# Altium footprint library Standard-Card-Footprints.PcbLib: 17 footprints (part 1 of 2)
Each footprint in its own frame and in the unit in brackets; x right, y up, seen from the top. Pads: shape width x height; smd on the part's side, far side on the other; paste and mask are expansions set on the pad; w line width, h text height; cw(c..) or ccw(c..) is an arc to the next point about the centre after c.
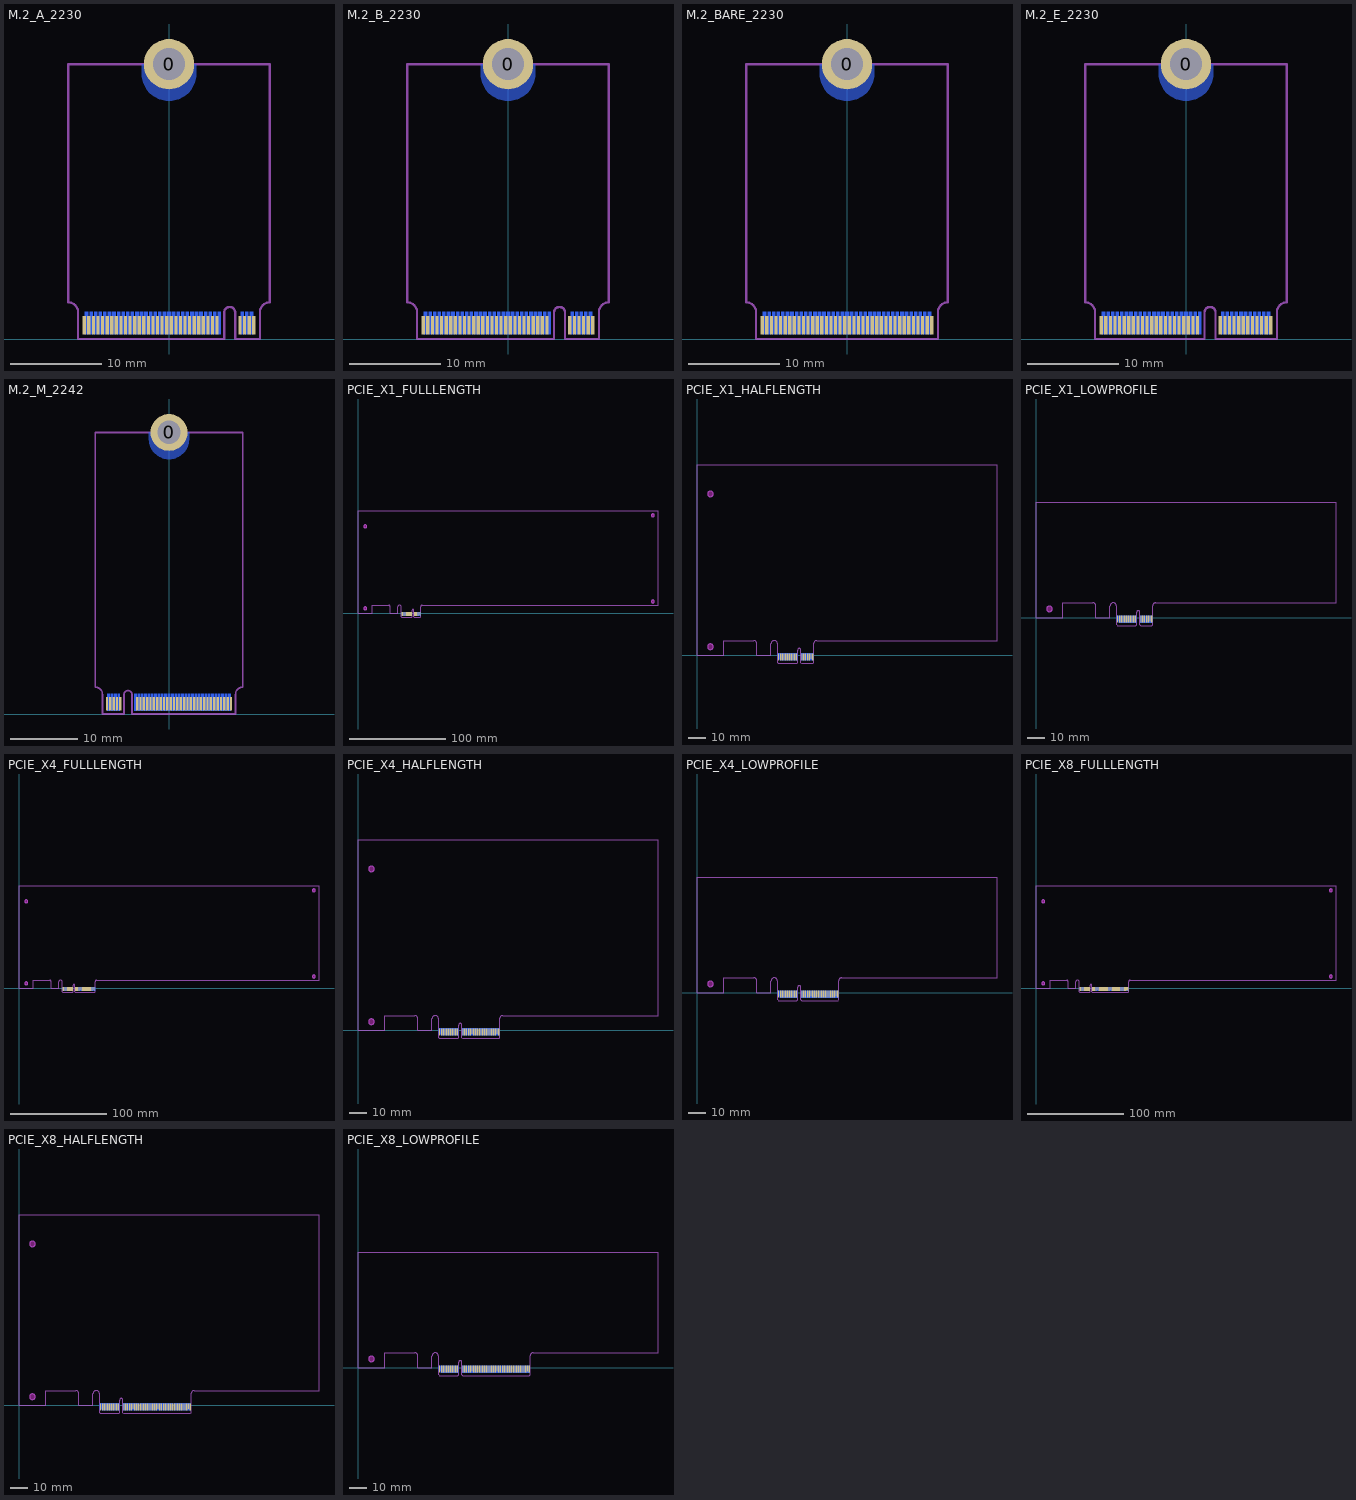
[diagram p0: the footprints below, top view; thin cyan lines are the x and y axes]

## M.2_A_2230 [mm]
pads (69):
  round 0.025 smd far side: 0(0,28)
  round 5.5 hole 3.5: 0(0,30)
  rect 0.35x2 smd: 1(9.25,1.5) 3(8.75,1.5) 5(8.25,1.5) 7(7.75,1.5) 17(5.25,1.5) 19(4.75,1.5) 21(4.25,1.5) 23(3.75,1.5) 25(3.25,1.5) 27(2.75,1.5) 29(2.25,1.5) 31(1.75,1.5) 33(1.25,1.5) 35(0.75,1.5) 37(0.25,1.5) 39(-0.25,1.5) 41(-0.75,1.5) 43(-1.25,1.5) 45(-1.75,1.5) 47(-2.25,1.5) 49(-2.75,1.5) 51(-3.25,1.5) 53(-3.75,1.5) 55(-4.25,1.5) 57(-4.75,1.5) 59(-5.25,1.5) 61(-5.75,1.5) 63(-6.25,1.5) 65(-6.75,1.5) 67(-7.25,1.5) 69(-7.75,1.5) 71(-8.25,1.5) 73(-8.75,1.5) 75(-9.25,1.5)
  rect 0.35x2.5 smd far side: 2(9,1.75) 4(8.5,1.75) 6(8,1.75) 16(5.5,1.75) 18(5,1.75) 20(4.5,1.75) 22(4,1.75) 24(3.5,1.75) 26(3,1.75) 28(2.5,1.75) 30(2,1.75) 32(1.5,1.75) 34(1,1.75) 36(0.5,1.75) 38(0,1.75) 40(-0.5,1.75) 42(-1,1.75) 44(-1.5,1.75) 46(-2,1.75) 48(-2.5,1.75) 50(-3,1.75) 52(-3.5,1.75) 54(-4,1.75) 56(-4.5,1.75) 58(-5,1.75) 60(-5.5,1.75) 62(-6,1.75) 64(-6.5,1.75) 66(-7,1.75) 68(-7.5,1.75) 70(-8,1.75) 72(-8.5,1.75) 74(-9,1.75)
Bottom Layer:
  region: -3,29 -3,28.882 -2.982,28.647 -2.945,28.414 -2.89,28.185 -2.817,27.961 -2.727,27.743 -2.62,27.533 -2.496,27.332 -2.358,27.141 -2.205,26.962 -2.038,26.795 -1.859,26.642 -1.668,26.504 -1.467,26.38 -1.257,26.273 -1.039,26.183 -0.815,26.11 -0.586,26.055 -0.353,26.018 -0.118,26 0.118,26 0.353,26.018 0.586,26.055 0.815,26.11 1.039,26.183 1.257,26.273 1.467,26.38 1.668,26.504 1.859,26.642 2.038,26.795 2.205,26.962 2.358,27.141 2.496,27.332 2.62,27.533 2.727,27.743 2.817,27.961 2.89,28.185 2.945,28.414 2.982,28.647 3,28.882 3,29 3,30 1.75,30 1.748,29.914 1.731,29.743 1.698,29.575 1.648,29.41 1.582,29.252 1.501,29.1 1.406,28.958 1.297,28.825 1.175,28.703 1.042,28.594 0.9,28.499 0.748,28.418 0.59,28.352 0.425,28.302 0.257,28.269 0.086,28.252 -0.086,28.252 -0.257,28.269 -0.425,28.302 -0.59,28.352 -0.748,28.418 -0.9,28.499 -1.042,28.594 -1.175,28.703 -1.297,28.825 -1.406,28.958 -1.501,29.1 -1.582,29.252 -1.648,29.41 -1.698,29.575 -1.731,29.743 -1.748,29.914 -1.75,30 -3,30
Top Solder:
  region: -11,4 11,4 11,0 -11,0
  region: -2.75,30 -2.75,29.784 -2.682,29.356 -2.549,28.944 -2.352,28.559 -2.098,28.208 -1.792,27.902 -1.441,27.648 -1.056,27.451 -0.644,27.318 -0.216,27.25 0.216,27.25 0.644,27.318 1.056,27.451 1.441,27.648 1.792,27.902 2.098,28.208 2.352,28.559 2.549,28.944 2.682,29.356 2.75,29.784 2.75,30 1.75,30 1.742,29.828 1.675,29.492 1.543,29.175 1.353,28.89 1.11,28.647 0.825,28.457 0.508,28.325 0.172,28.258 -0.172,28.258 -0.508,28.325 -0.825,28.457 -1.11,28.647 -1.353,28.89 -1.543,29.175 -1.675,29.492 -1.742,29.828 -1.75,30
Bottom Solder:
  region: -11,4 11,4 11,0 -11,0
  region: -3,29 -3,28.764 -2.926,28.297 -2.78,27.848 -2.566,27.428 -2.288,27.046 -1.954,26.712 -1.572,26.434 -1.152,26.22 -0.703,26.074 -0.236,26 0.236,26 0.703,26.074 1.152,26.22 1.572,26.434 1.954,26.712 2.288,27.046 2.566,27.428 2.78,27.848 2.926,28.297 3,28.764 3,29 3,30 1.75,30 1.742,29.828 1.675,29.492 1.543,29.175 1.353,28.89 1.11,28.647 0.825,28.457 0.508,28.325 0.172,28.258 -0.172,28.258 -0.508,28.325 -0.825,28.457 -1.11,28.647 -1.353,28.89 -1.543,29.175 -1.675,29.492 -1.742,29.828 -1.75,30 -3,30
Mechanical 1:
  lines w0.254: -11,4 cw(c-11,2.925) -9.925,2.925 -9.925,0 6.025,0 6.025,2.9 cw(c6.625,2.9) 7.225,2.9 7.225,0 9.925,0 9.925,2.925 cw(c11,2.925) 11,4 11,30 1.75,30 cw(c0,30) -1.75,30 -11,30 -11,4

## M.2_B_2230 [mm]
pads (69):
  round 0.025 smd far side: 0(0,28)
  round 5.5 hole 3.5: 0(0,30)
  rect 0.35x2 smd: 1(9.25,1.5) 3(8.75,1.5) 5(8.25,1.5) 7(7.75,1.5) 9(7.25,1.5) 11(6.75,1.5) 21(4.25,1.5) 23(3.75,1.5) 25(3.25,1.5) 27(2.75,1.5) 29(2.25,1.5) 31(1.75,1.5) 33(1.25,1.5) 35(0.75,1.5) 37(0.25,1.5) 39(-0.25,1.5) 41(-0.75,1.5) 43(-1.25,1.5) 45(-1.75,1.5) 47(-2.25,1.5) 49(-2.75,1.5) 51(-3.25,1.5) 53(-3.75,1.5) 55(-4.25,1.5) 57(-4.75,1.5) 59(-5.25,1.5) 61(-5.75,1.5) 63(-6.25,1.5) 65(-6.75,1.5) 67(-7.25,1.5) 69(-7.75,1.5) 71(-8.25,1.5) 73(-8.75,1.5) 75(-9.25,1.5)
  rect 0.35x2.5 smd far side: 2(9,1.75) 4(8.5,1.75) 6(8,1.75) 8(7.5,1.75) 10(7,1.75) 20(4.5,1.75) 22(4,1.75) 24(3.5,1.75) 26(3,1.75) 28(2.5,1.75) 30(2,1.75) 32(1.5,1.75) 34(1,1.75) 36(0.5,1.75) 38(0,1.75) 40(-0.5,1.75) 42(-1,1.75) 44(-1.5,1.75) 46(-2,1.75) 48(-2.5,1.75) 50(-3,1.75) 52(-3.5,1.75) 54(-4,1.75) 56(-4.5,1.75) 58(-5,1.75) 60(-5.5,1.75) 62(-6,1.75) 64(-6.5,1.75) 66(-7,1.75) 68(-7.5,1.75) 70(-8,1.75) 72(-8.5,1.75) 74(-9,1.75)
Bottom Layer:
  region: -3,29 -3,28.882 -2.982,28.647 -2.945,28.414 -2.89,28.185 -2.817,27.961 -2.727,27.743 -2.62,27.533 -2.496,27.332 -2.358,27.141 -2.205,26.962 -2.038,26.795 -1.859,26.642 -1.668,26.504 -1.467,26.38 -1.257,26.273 -1.039,26.183 -0.815,26.11 -0.586,26.055 -0.353,26.018 -0.118,26 0.118,26 0.353,26.018 0.586,26.055 0.815,26.11 1.039,26.183 1.257,26.273 1.467,26.38 1.668,26.504 1.859,26.642 2.038,26.795 2.205,26.962 2.358,27.141 2.496,27.332 2.62,27.533 2.727,27.743 2.817,27.961 2.89,28.185 2.945,28.414 2.982,28.647 3,28.882 3,29 3,30 1.75,30 1.748,29.914 1.731,29.743 1.698,29.575 1.648,29.41 1.582,29.252 1.501,29.1 1.406,28.958 1.297,28.825 1.175,28.703 1.042,28.594 0.9,28.499 0.748,28.418 0.59,28.352 0.425,28.302 0.257,28.269 0.086,28.252 -0.086,28.252 -0.257,28.269 -0.425,28.302 -0.59,28.352 -0.748,28.418 -0.9,28.499 -1.042,28.594 -1.175,28.703 -1.297,28.825 -1.406,28.958 -1.501,29.1 -1.582,29.252 -1.648,29.41 -1.698,29.575 -1.731,29.743 -1.748,29.914 -1.75,30 -3,30
Top Solder:
  region: -11,4 11,4 11,0 -11,0
  region: -2.75,30 -2.75,29.784 -2.682,29.356 -2.549,28.944 -2.352,28.559 -2.098,28.208 -1.792,27.902 -1.441,27.648 -1.056,27.451 -0.644,27.318 -0.216,27.25 0.216,27.25 0.644,27.318 1.056,27.451 1.441,27.648 1.792,27.902 2.098,28.208 2.352,28.559 2.549,28.944 2.682,29.356 2.75,29.784 2.75,30 1.75,30 1.742,29.828 1.675,29.492 1.543,29.175 1.353,28.89 1.11,28.647 0.825,28.457 0.508,28.325 0.172,28.258 -0.172,28.258 -0.508,28.325 -0.825,28.457 -1.11,28.647 -1.353,28.89 -1.543,29.175 -1.675,29.492 -1.742,29.828 -1.75,30
Bottom Solder:
  region: -11,4 11,4 11,0 -11,0
  region: -3,29 -3,28.764 -2.926,28.297 -2.78,27.848 -2.566,27.428 -2.288,27.046 -1.954,26.712 -1.572,26.434 -1.152,26.22 -0.703,26.074 -0.236,26 0.236,26 0.703,26.074 1.152,26.22 1.572,26.434 1.954,26.712 2.288,27.046 2.566,27.428 2.78,27.848 2.926,28.297 3,28.764 3,29 3,30 1.75,30 1.742,29.828 1.675,29.492 1.543,29.175 1.353,28.89 1.11,28.647 0.825,28.457 0.508,28.325 0.172,28.258 -0.172,28.258 -0.508,28.325 -0.825,28.457 -1.11,28.647 -1.353,28.89 -1.543,29.175 -1.675,29.492 -1.742,29.828 -1.75,30 -3,30
Mechanical 1:
  lines w0.254: -11,4 cw(c-11,2.925) -9.925,2.925 -9.925,0 5.025,0 5.025,2.9 cw(c5.625,2.9) 6.225,2.9 6.225,0 9.925,0 9.925,2.925 cw(c11,2.925) 11,4 11,30 1.75,30 cw(c0,30) -1.75,30 -11,30 -11,4

## M.2_BARE_2230 [mm]
pads (77):
  round 0.025 smd far side: 0(0,28)
  round 5.5 hole 3.5: 0(0,30)
  rect 0.35x2 smd: 1(9.25,1.5) 3(8.75,1.5) 5(8.25,1.5) 7(7.75,1.5) 9(7.25,1.5) 11(6.75,1.5) 13(6.25,1.5) 15(5.75,1.5) 17(5.25,1.5) 19(4.75,1.5) 21(4.25,1.5) 23(3.75,1.5) 25(3.25,1.5) 27(2.75,1.5) 29(2.25,1.5) 31(1.75,1.5) 33(1.25,1.5) 35(0.75,1.5) 37(0.25,1.5) 39(-0.25,1.5) 41(-0.75,1.5) 43(-1.25,1.5) 45(-1.75,1.5) 47(-2.25,1.5) 49(-2.75,1.5) 51(-3.25,1.5) 53(-3.75,1.5) 55(-4.25,1.5) 57(-4.75,1.5) 59(-5.25,1.5) 61(-5.75,1.5) 63(-6.25,1.5) 65(-6.75,1.5) 67(-7.25,1.5) 69(-7.75,1.5) 71(-8.25,1.5) 73(-8.75,1.5) 75(-9.25,1.5)
  rect 0.35x2.5 smd far side: 2(9,1.75) 4(8.5,1.75) 6(8,1.75) 8(7.5,1.75) 10(7,1.75) 12(6.5,1.75) 14(6,1.75) 16(5.5,1.75) 18(5,1.75) 20(4.5,1.75) 22(4,1.75) 24(3.5,1.75) 26(3,1.75) 28(2.5,1.75) 30(2,1.75) 32(1.5,1.75) 34(1,1.75) 36(0.5,1.75) 38(0,1.75) 40(-0.5,1.75) 42(-1,1.75) 44(-1.5,1.75) 46(-2,1.75) 48(-2.5,1.75) 50(-3,1.75) 52(-3.5,1.75) 54(-4,1.75) 56(-4.5,1.75) 58(-5,1.75) 60(-5.5,1.75) 62(-6,1.75) 64(-6.5,1.75) 66(-7,1.75) 68(-7.5,1.75) 70(-8,1.75) 72(-8.5,1.75) 74(-9,1.75)
Bottom Layer:
  region: -3,29 -3,28.882 -2.982,28.647 -2.945,28.414 -2.89,28.185 -2.817,27.961 -2.727,27.743 -2.62,27.533 -2.496,27.332 -2.358,27.141 -2.205,26.962 -2.038,26.795 -1.859,26.642 -1.668,26.504 -1.467,26.38 -1.257,26.273 -1.039,26.183 -0.815,26.11 -0.586,26.055 -0.353,26.018 -0.118,26 0.118,26 0.353,26.018 0.586,26.055 0.815,26.11 1.039,26.183 1.257,26.273 1.467,26.38 1.668,26.504 1.859,26.642 2.038,26.795 2.205,26.962 2.358,27.141 2.496,27.332 2.62,27.533 2.727,27.743 2.817,27.961 2.89,28.185 2.945,28.414 2.982,28.647 3,28.882 3,29 3,30 1.75,30 1.748,29.914 1.731,29.743 1.698,29.575 1.648,29.41 1.582,29.252 1.501,29.1 1.406,28.958 1.297,28.825 1.175,28.703 1.042,28.594 0.9,28.499 0.748,28.418 0.59,28.352 0.425,28.302 0.257,28.269 0.086,28.252 -0.086,28.252 -0.257,28.269 -0.425,28.302 -0.59,28.352 -0.748,28.418 -0.9,28.499 -1.042,28.594 -1.175,28.703 -1.297,28.825 -1.406,28.958 -1.501,29.1 -1.582,29.252 -1.648,29.41 -1.698,29.575 -1.731,29.743 -1.748,29.914 -1.75,30 -3,30
Top Solder:
  region: -11,4 11,4 11,0 -11,0
  region: -2.75,30 -2.75,29.784 -2.682,29.356 -2.549,28.944 -2.352,28.559 -2.098,28.208 -1.792,27.902 -1.441,27.648 -1.056,27.451 -0.644,27.318 -0.216,27.25 0.216,27.25 0.644,27.318 1.056,27.451 1.441,27.648 1.792,27.902 2.098,28.208 2.352,28.559 2.549,28.944 2.682,29.356 2.75,29.784 2.75,30 1.75,30 1.742,29.828 1.675,29.492 1.543,29.175 1.353,28.89 1.11,28.647 0.825,28.457 0.508,28.325 0.172,28.258 -0.172,28.258 -0.508,28.325 -0.825,28.457 -1.11,28.647 -1.353,28.89 -1.543,29.175 -1.675,29.492 -1.742,29.828 -1.75,30
Bottom Solder:
  region: -11,4 11,4 11,0 -11,0
  region: -3,29 -3,28.764 -2.926,28.297 -2.78,27.848 -2.566,27.428 -2.288,27.046 -1.954,26.712 -1.572,26.434 -1.152,26.22 -0.703,26.074 -0.236,26 0.236,26 0.703,26.074 1.152,26.22 1.572,26.434 1.954,26.712 2.288,27.046 2.566,27.428 2.78,27.848 2.926,28.297 3,28.764 3,29 3,30 1.75,30 1.742,29.828 1.675,29.492 1.543,29.175 1.353,28.89 1.11,28.647 0.825,28.457 0.508,28.325 0.172,28.258 -0.172,28.258 -0.508,28.325 -0.825,28.457 -1.11,28.647 -1.353,28.89 -1.543,29.175 -1.675,29.492 -1.742,29.828 -1.75,30 -3,30
Mechanical 1:
  lines w0.254: 7.2,0 -9.925,0 -9.925,2.925 ccw(c-11,2.925) -11,4 -11,30 -1.75,30 ccw(c0,30) 1.75,30 11,30 11,4 ccw(c11,2.925) 9.925,2.925 9.925,0 7.225,0

## M.2_E_2230 [mm]
pads (69):
  round 0.025 smd far side: 0(0,28)
  round 5.5 hole 3.5: 0(0,30)
  rect 0.35x2 smd: 1(9.25,1.5) 3(8.75,1.5) 5(8.25,1.5) 7(7.75,1.5) 9(7.25,1.5) 11(6.75,1.5) 13(6.25,1.5) 15(5.75,1.5) 17(5.25,1.5) 19(4.75,1.5) 21(4.25,1.5) 23(3.75,1.5) 33(1.25,1.5) 35(0.75,1.5) 37(0.25,1.5) 39(-0.25,1.5) 41(-0.75,1.5) 43(-1.25,1.5) 45(-1.75,1.5) 47(-2.25,1.5) 49(-2.75,1.5) 51(-3.25,1.5) 53(-3.75,1.5) 55(-4.25,1.5) 57(-4.75,1.5) 59(-5.25,1.5) 61(-5.75,1.5) 63(-6.25,1.5) 65(-6.75,1.5) 67(-7.25,1.5) 69(-7.75,1.5) 71(-8.25,1.5) 73(-8.75,1.5) 75(-9.25,1.5)
  rect 0.35x2.5 smd far side: 2(9,1.75) 4(8.5,1.75) 6(8,1.75) 8(7.5,1.75) 10(7,1.75) 12(6.5,1.75) 14(6,1.75) 16(5.5,1.75) 18(5,1.75) 20(4.5,1.75) 22(4,1.75) 32(1.5,1.75) 34(1,1.75) 36(0.5,1.75) 38(0,1.75) 40(-0.5,1.75) 42(-1,1.75) 44(-1.5,1.75) 46(-2,1.75) 48(-2.5,1.75) 50(-3,1.75) 52(-3.5,1.75) 54(-4,1.75) 56(-4.5,1.75) 58(-5,1.75) 60(-5.5,1.75) 62(-6,1.75) 64(-6.5,1.75) 66(-7,1.75) 68(-7.5,1.75) 70(-8,1.75) 72(-8.5,1.75) 74(-9,1.75)
Bottom Layer:
  region: -3,29 -3,28.882 -2.982,28.647 -2.945,28.414 -2.89,28.185 -2.817,27.961 -2.727,27.743 -2.62,27.533 -2.496,27.332 -2.358,27.141 -2.205,26.962 -2.038,26.795 -1.859,26.642 -1.668,26.504 -1.467,26.38 -1.257,26.273 -1.039,26.183 -0.815,26.11 -0.586,26.055 -0.353,26.018 -0.118,26 0.118,26 0.353,26.018 0.586,26.055 0.815,26.11 1.039,26.183 1.257,26.273 1.467,26.38 1.668,26.504 1.859,26.642 2.038,26.795 2.205,26.962 2.358,27.141 2.496,27.332 2.62,27.533 2.727,27.743 2.817,27.961 2.89,28.185 2.945,28.414 2.982,28.647 3,28.882 3,29 3,30 1.75,30 1.748,29.914 1.731,29.743 1.698,29.575 1.648,29.41 1.582,29.252 1.501,29.1 1.406,28.958 1.297,28.825 1.175,28.703 1.042,28.594 0.9,28.499 0.748,28.418 0.59,28.352 0.425,28.302 0.257,28.269 0.086,28.252 -0.086,28.252 -0.257,28.269 -0.425,28.302 -0.59,28.352 -0.748,28.418 -0.9,28.499 -1.042,28.594 -1.175,28.703 -1.297,28.825 -1.406,28.958 -1.501,29.1 -1.582,29.252 -1.648,29.41 -1.698,29.575 -1.731,29.743 -1.748,29.914 -1.75,30 -3,30
Top Solder:
  region: -11,4 11,4 11,0 -11,0
  region: -2.75,30 -2.75,29.784 -2.682,29.356 -2.549,28.944 -2.352,28.559 -2.098,28.208 -1.792,27.902 -1.441,27.648 -1.056,27.451 -0.644,27.318 -0.216,27.25 0.216,27.25 0.644,27.318 1.056,27.451 1.441,27.648 1.792,27.902 2.098,28.208 2.352,28.559 2.549,28.944 2.682,29.356 2.75,29.784 2.75,30 1.75,30 1.742,29.828 1.675,29.492 1.543,29.175 1.353,28.89 1.11,28.647 0.825,28.457 0.508,28.325 0.172,28.258 -0.172,28.258 -0.508,28.325 -0.825,28.457 -1.11,28.647 -1.353,28.89 -1.543,29.175 -1.675,29.492 -1.742,29.828 -1.75,30
Bottom Solder:
  region: -11,4 11,4 11,0 -11,0
  region: -3,29 -3,28.764 -2.926,28.297 -2.78,27.848 -2.566,27.428 -2.288,27.046 -1.954,26.712 -1.572,26.434 -1.152,26.22 -0.703,26.074 -0.236,26 0.236,26 0.703,26.074 1.152,26.22 1.572,26.434 1.954,26.712 2.288,27.046 2.566,27.428 2.78,27.848 2.926,28.297 3,28.764 3,29 3,30 1.75,30 1.742,29.828 1.675,29.492 1.543,29.175 1.353,28.89 1.11,28.647 0.825,28.457 0.508,28.325 0.172,28.258 -0.172,28.258 -0.508,28.325 -0.825,28.457 -1.11,28.647 -1.353,28.89 -1.543,29.175 -1.675,29.492 -1.742,29.828 -1.75,30 -3,30
Mechanical 1:
  lines w0.254: -11,4 cw(c-11,2.925) -9.925,2.925 -9.925,0 2.025,0 2.025,2.9 cw(c2.625,2.9) 3.225,2.9 3.225,0 9.925,0 9.925,2.925 cw(c11,2.925) 11,4 11,30 1.75,30 cw(c0,30) -1.75,30 -11,30 -11,4

## M.2_M_2242 [mm]
pads (69):
  round 0.025 smd far side: 0(0,40)
  round 5.5 hole 3.5: 0(0,42)
  rect 0.35x2 smd: 1(9.25,1.5) 3(8.75,1.5) 5(8.25,1.5) 7(7.75,1.5) 9(7.25,1.5) 11(6.75,1.5) 13(6.25,1.5) 15(5.75,1.5) 17(5.25,1.5) 19(4.75,1.5) 21(4.25,1.5) 23(3.75,1.5) 25(3.25,1.5) 27(2.75,1.5) 29(2.25,1.5) 31(1.75,1.5) 33(1.25,1.5) 35(0.75,1.5) 37(0.25,1.5) 39(-0.25,1.5) 41(-0.75,1.5) 43(-1.25,1.5) 45(-1.75,1.5) 47(-2.25,1.5) 49(-2.75,1.5) 51(-3.25,1.5) 53(-3.75,1.5) 55(-4.25,1.5) 57(-4.75,1.5) 67(-7.25,1.5) 69(-7.75,1.5) 71(-8.25,1.5) 73(-8.75,1.5) 75(-9.25,1.5)
  rect 0.35x2.5 smd far side: 2(9,1.75) 4(8.5,1.75) 6(8,1.75) 8(7.5,1.75) 10(7,1.75) 12(6.5,1.75) 14(6,1.75) 16(5.5,1.75) 18(5,1.75) 20(4.5,1.75) 22(4,1.75) 24(3.5,1.75) 26(3,1.75) 28(2.5,1.75) 30(2,1.75) 32(1.5,1.75) 34(1,1.75) 36(0.5,1.75) 38(0,1.75) 40(-0.5,1.75) 42(-1,1.75) 44(-1.5,1.75) 46(-2,1.75) 48(-2.5,1.75) 50(-3,1.75) 52(-3.5,1.75) 54(-4,1.75) 56(-4.5,1.75) 58(-5,1.75) 68(-7.5,1.75) 70(-8,1.75) 72(-8.5,1.75) 74(-9,1.75)
Bottom Layer:
  region: -3,41 -3,40.882 -2.982,40.647 -2.945,40.414 -2.89,40.185 -2.817,39.961 -2.727,39.743 -2.62,39.533 -2.496,39.332 -2.358,39.141 -2.205,38.962 -2.038,38.795 -1.859,38.642 -1.668,38.504 -1.467,38.38 -1.257,38.273 -1.039,38.183 -0.815,38.11 -0.586,38.055 -0.353,38.018 -0.118,38 0.118,38 0.353,38.018 0.586,38.055 0.815,38.11 1.039,38.183 1.257,38.273 1.467,38.38 1.668,38.504 1.859,38.642 2.038,38.795 2.205,38.962 2.358,39.141 2.496,39.332 2.62,39.533 2.727,39.743 2.817,39.961 2.89,40.185 2.945,40.414 2.982,40.647 3,40.882 3,41 3,42 1.75,42 1.748,41.914 1.731,41.743 1.698,41.575 1.648,41.41 1.582,41.252 1.501,41.1 1.406,40.958 1.297,40.825 1.175,40.703 1.042,40.594 0.9,40.499 0.748,40.418 0.59,40.352 0.425,40.302 0.257,40.269 0.086,40.252 -0.086,40.252 -0.257,40.269 -0.425,40.302 -0.59,40.352 -0.748,40.418 -0.9,40.499 -1.042,40.594 -1.175,40.703 -1.297,40.825 -1.406,40.958 -1.501,41.1 -1.582,41.252 -1.648,41.41 -1.698,41.575 -1.731,41.743 -1.748,41.914 -1.75,42 -3,42
Top Solder:
  region: -11,4 11,4 11,0 -11,0
  region: -2.75,42 -2.75,41.784 -2.682,41.356 -2.549,40.944 -2.352,40.559 -2.098,40.208 -1.792,39.902 -1.441,39.648 -1.056,39.451 -0.644,39.318 -0.216,39.25 0.216,39.25 0.644,39.318 1.056,39.451 1.441,39.648 1.792,39.902 2.098,40.208 2.352,40.559 2.549,40.944 2.682,41.356 2.75,41.784 2.75,42 1.75,42 1.742,41.828 1.675,41.492 1.543,41.175 1.353,40.89 1.11,40.647 0.825,40.457 0.508,40.325 0.172,40.258 -0.172,40.258 -0.508,40.325 -0.825,40.457 -1.11,40.647 -1.353,40.89 -1.543,41.175 -1.675,41.492 -1.742,41.828 -1.75,42
Bottom Solder:
  region: -11,4 11,4 11,0 -11,0
  region: -3,41 -3,40.764 -2.926,40.297 -2.78,39.848 -2.566,39.428 -2.288,39.046 -1.954,38.712 -1.572,38.434 -1.152,38.22 -0.703,38.074 -0.236,38 0.236,38 0.703,38.074 1.152,38.22 1.572,38.434 1.954,38.712 2.288,39.046 2.566,39.428 2.78,39.848 2.926,40.297 3,40.764 3,41 3,42 1.75,42 1.742,41.828 1.675,41.492 1.543,41.175 1.353,40.89 1.11,40.647 0.825,40.457 0.508,40.325 0.172,40.258 -0.172,40.258 -0.508,40.325 -0.825,40.457 -1.11,40.647 -1.353,40.89 -1.543,41.175 -1.675,41.492 -1.742,41.828 -1.75,42 -3,42
Mechanical 1:
  lines w0.254: -11,4 cw(c-11,2.925) -9.925,2.925 -9.925,0 -6.725,0 -6.725,2.9 cw(c-6.125,2.9) -5.525,2.9 -5.525,0 9.925,0 9.925,2.925 cw(c11,2.925) 11,4 11,42 1.75,42 cw(c0,42) -1.75,42 -11,42 -11,4

## PCIE_X1_FULLLENGTH [mm]
pads (36):
  rect 0.7x3.2 smd far side: A1(45.6,-0.5)
  rect 0.7x3.9 smd far side: A2(46.6,-0.855) A3(47.6,-0.855) A4(48.6,-0.855) A5(49.6,-0.855) A6(50.6,-0.855) A7(51.6,-0.855) A8(52.6,-0.855) A9(53.6,-0.855) A10(54.6,-0.855) A11(55.6,-0.855) A12(58.7,-0.855) A13(59.7,-0.855) A14(60.7,-0.855) A15(61.7,-0.855) A16(62.7,-0.855) A17(63.7,-0.855) A18(64.7,-0.855)
  rect 0.7x3.9 smd: B1(45.6,-0.855) B2(46.6,-0.855) B3(47.6,-0.855) B4(48.6,-0.855) B5(49.6,-0.855) B6(50.6,-0.855) B7(51.6,-0.855) B8(52.6,-0.855) B9(53.6,-0.855) B10(54.6,-0.855) B11(55.6,-0.855) B12(58.7,-0.855) B13(59.7,-0.855) B14(60.7,-0.855) B15(61.7,-0.855) B16(62.7,-0.855) B18(64.7,-0.855)
  rect 0.7x3.2 smd: B17(63.7,-0.5)
Top Solder:
  region: 58.1,1.2 58.1,-4 58.6,-4.5 64.8,-4.5 65.3,-4 65.3,1.2
  region: 45,1.2 45,-4 45.5,-4.5 55.7,-4.5 56.2,-4 56.2,1.2
Bottom Solder:
  region: 58.1,1.2 58.1,-4 58.6,-4.5 64.8,-4.5 65.3,-4 65.3,1.2
  region: 45,1.2 45,-4 45.5,-4.5 55.7,-4.5 56.2,-4 56.2,1.2
Keep-Out Layer:
  board cut-out: 7.5,88.66 7.343,88.66 7.036,88.721 6.747,88.841 6.486,89.015 6.265,89.236 6.091,89.497 5.971,89.786 5.91,90.093 5.91,90.25 5.91,90.407 5.971,90.714 6.091,91.003 6.265,91.264 6.486,91.485 6.747,91.659 7.036,91.779 7.343,91.84 7.5,91.84 7.657,91.84 7.964,91.779 8.253,91.659 8.514,91.485 8.735,91.264 8.909,91.003 9.029,90.714 9.09,90.407 9.09,90.25 9.09,90.093 9.029,89.786 8.909,89.497 8.735,89.236 8.514,89.015 8.253,88.841 7.964,88.721 7.657,88.66
  board cut-out: 5.91,4.85 5.91,4.693 5.971,4.386 6.091,4.097 6.265,3.836 6.486,3.615 6.747,3.441 7.036,3.321 7.343,3.26 7.5,3.26 7.657,3.26 7.964,3.321 8.253,3.441 8.514,3.615 8.735,3.836 8.909,4.097 9.029,4.386 9.09,4.693 9.09,4.85 9.09,5.007 9.029,5.314 8.909,5.603 8.735,5.864 8.514,6.085 8.253,6.259 7.964,6.379 7.657,6.44 7.5,6.44 7.343,6.44 7.036,6.379 6.747,6.259 6.486,6.085 6.265,5.864 6.091,5.603 5.971,5.314 5.91,5.007
  board cut-out: 305.16,101.63 305.16,101.473 305.221,101.166 305.341,100.877 305.515,100.616 305.736,100.395 305.997,100.221 306.286,100.101 306.593,100.04 306.75,100.04 306.907,100.04 307.214,100.101 307.503,100.221 307.764,100.395 307.985,100.616 308.159,100.877 308.279,101.166 308.34,101.473 308.34,101.63 308.34,101.787 308.279,102.094 308.159,102.383 307.985,102.644 307.764,102.865 307.503,103.039 307.214,103.159 306.907,103.22 306.75,103.22 306.593,103.22 306.286,103.159 305.997,103.039 305.736,102.865 305.515,102.644 305.341,102.383 305.221,102.094 305.16,101.787
  board cut-out: 305.16,12.1 305.16,11.943 305.221,11.636 305.341,11.347 305.515,11.086 305.736,10.865 305.997,10.691 306.286,10.571 306.593,10.51 306.75,10.51 306.907,10.51 307.214,10.571 307.503,10.691 307.764,10.865 307.985,11.086 308.159,11.347 308.279,11.636 308.34,11.943 308.34,12.1 308.34,12.257 308.279,12.564 308.159,12.853 307.985,13.114 307.764,13.335 307.503,13.509 307.214,13.629 306.907,13.69 306.75,13.69 306.593,13.69 306.286,13.629 305.997,13.509 305.736,13.335 305.515,13.114 305.341,12.853 305.221,12.564 305.16,12.257
Mechanical 1:
  circle w0.254: c306.75,101.63 r1.59
  circle w0.254: c7.5,90.25 r1.59
  circle w0.254: c306.75,12.1 r1.59
  circle w0.254: c7.5,4.85 r1.59
  lines w0.254: 0,0 0,106.65 312,106.65 312,8.25 66.8,8.25 ccw(c66.8,6.75) 65.3,6.75 65.3,-4 64.8,-4.5 58.6,-4.5 58.1,-4 58.1,2.95 ccw(c57.15,2.95) 56.2,2.95 56.2,-4 55.7,-4.5 45.5,-4.5 45,-4 45,6.425 ccw(c43.175,6.425) 41.35,6.425 41.35,0 33.35,0 33.35,6.75 ccw(c31.85,6.75) 31.85,8.25 15,8.25 15,0 0,0

## PCIE_X1_HALFLENGTH [mm]
pads (36):
  rect 0.7x3.2 smd far side: A1(45.6,-0.5)
  rect 0.7x3.9 smd far side: A2(46.6,-0.855) A3(47.6,-0.855) A4(48.6,-0.855) A5(49.6,-0.855) A6(50.6,-0.855) A7(51.6,-0.855) A8(52.6,-0.855) A9(53.6,-0.855) A10(54.6,-0.855) A11(55.6,-0.855) A12(58.7,-0.855) A13(59.7,-0.855) A14(60.7,-0.855) A15(61.7,-0.855) A16(62.7,-0.855) A17(63.7,-0.855) A18(64.7,-0.855)
  rect 0.7x3.9 smd: B1(45.6,-0.855) B2(46.6,-0.855) B3(47.6,-0.855) B4(48.6,-0.855) B5(49.6,-0.855) B6(50.6,-0.855) B7(51.6,-0.855) B8(52.6,-0.855) B9(53.6,-0.855) B10(54.6,-0.855) B11(55.6,-0.855) B12(58.7,-0.855) B13(59.7,-0.855) B14(60.7,-0.855) B15(61.7,-0.855) B16(62.7,-0.855) B18(64.7,-0.855)
  rect 0.7x3.2 smd: B17(63.7,-0.5)
Top Solder:
  region: 58.1,1.2 58.1,-4 58.6,-4.5 64.8,-4.5 65.3,-4 65.3,1.2
  region: 45,1.2 45,-4 45.5,-4.5 55.7,-4.5 56.2,-4 56.2,1.2
Bottom Solder:
  region: 58.1,1.2 58.1,-4 58.6,-4.5 64.8,-4.5 65.3,-4 65.3,1.2
  region: 45,1.2 45,-4 45.5,-4.5 55.7,-4.5 56.2,-4 56.2,1.2
Keep-Out Layer:
  board cut-out: 5.91,90.25 5.91,90.407 5.971,90.714 6.091,91.003 6.265,91.264 6.486,91.485 6.747,91.659 7.036,91.779 7.343,91.84 7.5,91.84 7.657,91.84 7.964,91.779 8.253,91.659 8.514,91.485 8.735,91.264 8.909,91.003 9.029,90.714 9.09,90.407 9.09,90.25 9.09,90.093 9.029,89.786 8.909,89.497 8.735,89.236 8.514,89.015 8.253,88.841 7.964,88.721 7.657,88.66 7.5,88.66 7.343,88.66 7.036,88.721 6.747,88.841 6.486,89.015 6.265,89.236 6.091,89.497 5.971,89.786 5.91,90.093
  board cut-out: 5.91,4.85 5.91,5.007 5.971,5.314 6.091,5.603 6.265,5.864 6.486,6.085 6.747,6.259 7.036,6.379 7.343,6.44 7.5,6.44 7.657,6.44 7.964,6.379 8.253,6.259 8.514,6.085 8.735,5.864 8.909,5.603 9.029,5.314 9.09,5.007 9.09,4.85 9.09,4.693 9.029,4.386 8.909,4.097 8.735,3.836 8.514,3.615 8.253,3.441 7.964,3.321 7.657,3.26 7.5,3.26 7.343,3.26 7.036,3.321 6.747,3.441 6.486,3.615 6.265,3.836 6.091,4.097 5.971,4.386 5.91,4.693
Mechanical 1:
  circle w0.254: c7.5,4.85 r1.59
  circle w0.254: c7.5,90.25 r1.59
  lines w0.254: 0,0 15,0 15,8.25 31.85,8.25 cw(c31.85,6.75) 33.35,6.75 33.35,0 41.35,0 41.35,6.425 cw(c43.175,6.425) 45,6.425 45,-4 45.5,-4.5 55.7,-4.5 56.2,-4 56.2,2.95 cw(c57.15,2.95) 58.1,2.95 58.1,-4 58.6,-4.5 64.8,-4.5 65.3,-4 65.3,6.75 cw(c66.8,6.75) 66.8,8.25 167.65,8.25 167.65,106.65 0,106.65 0,0

## PCIE_X1_LOWPROFILE [mm]
pads (36):
  rect 0.7x3.2 smd far side: A1(45.6,-0.5)
  rect 0.7x3.9 smd far side: A2(46.6,-0.855) A3(47.6,-0.855) A4(48.6,-0.855) A5(49.6,-0.855) A6(50.6,-0.855) A7(51.6,-0.855) A8(52.6,-0.855) A9(53.6,-0.855) A10(54.6,-0.855) A11(55.6,-0.855) A12(58.7,-0.855) A13(59.7,-0.855) A14(60.7,-0.855) A15(61.7,-0.855) A16(62.7,-0.855) A17(63.7,-0.855) A18(64.7,-0.855)
  rect 0.7x3.9 smd: B1(45.6,-0.855) B2(46.6,-0.855) B3(47.6,-0.855) B4(48.6,-0.855) B5(49.6,-0.855) B6(50.6,-0.855) B7(51.6,-0.855) B8(52.6,-0.855) B9(53.6,-0.855) B10(54.6,-0.855) B11(55.6,-0.855) B12(58.7,-0.855) B13(59.7,-0.855) B14(60.7,-0.855) B15(61.7,-0.855) B16(62.7,-0.855) B18(64.7,-0.855)
  rect 0.7x3.2 smd: B17(63.7,-0.5)
Top Solder:
  region: 58.1,1.2 58.1,-4 58.6,-4.5 64.8,-4.5 65.3,-4 65.3,1.2
  region: 45,1.2 45,-4 45.5,-4.5 55.7,-4.5 56.2,-4 56.2,1.2
Bottom Solder:
  region: 58.1,1.2 58.1,-4 58.6,-4.5 64.8,-4.5 65.3,-4 65.3,1.2
  region: 45,1.2 45,-4 45.5,-4.5 55.7,-4.5 56.2,-4 56.2,1.2
Keep-Out Layer:
  board cut-out: 5.91,4.85 5.91,4.693 5.971,4.386 6.091,4.097 6.265,3.836 6.486,3.615 6.747,3.441 7.036,3.321 7.343,3.26 7.5,3.26 7.657,3.26 7.964,3.321 8.253,3.441 8.514,3.615 8.735,3.836 8.909,4.097 9.029,4.386 9.09,4.693 9.09,4.85 9.09,5.007 9.029,5.314 8.909,5.603 8.735,5.864 8.514,6.085 8.253,6.259 7.964,6.379 7.657,6.44 7.5,6.44 7.343,6.44 7.036,6.379 6.747,6.259 6.486,6.085 6.265,5.864 6.091,5.603 5.971,5.314 5.91,5.007
Mechanical 1:
  circle w0.254: c7.5,4.85 r1.59
  lines w0.254: 0,0 0,64.4 167.65,64.4 167.65,8.25 66.8,8.25 ccw(c66.8,6.75) 65.3,6.75 65.3,-4 64.8,-4.5 58.6,-4.5 58.1,-4 58.1,2.95 ccw(c57.15,2.95) 56.2,2.95 56.2,-4 55.7,-4.5 45.5,-4.5 45,-4 45,6.425 ccw(c43.175,6.425) 41.35,6.425 41.35,0 33.35,0 33.35,6.75 ccw(c31.85,6.75) 31.85,8.25 15,8.25 15,0 0,0

## PCIE_X4_FULLLENGTH [mm]
pads (64):
  rect 0.7x3.2 smd far side: A1(45.6,-0.5)
  rect 0.7x3.9 smd far side: A2(46.6,-0.855) A3(47.6,-0.855) A4(48.6,-0.855) A5(49.6,-0.855) A6(50.6,-0.855) A7(51.6,-0.855) A8(52.6,-0.855) A9(53.6,-0.855) A10(54.6,-0.855) A11(55.6,-0.855) A12(58.7,-0.855) A13(59.7,-0.855) A14(60.7,-0.855) A15(61.7,-0.855) A16(62.7,-0.855) A17(63.7,-0.855) A18(64.7,-0.855) A19(65.7,-0.855) A20(66.7,-0.855) A21(67.7,-0.855) A22(68.7,-0.855) A23(69.7,-0.855) A24(70.7,-0.855) A25(71.7,-0.855) A26(72.7,-0.855) A27(73.7,-0.855) A28(74.7,-0.855) A29(75.7,-0.855) A30(76.7,-0.855) A31(77.7,-0.855) A32(78.7,-0.855)
  rect 0.7x3.9 smd: B1(45.6,-0.855) B2(46.6,-0.855) B3(47.6,-0.855) B4(48.6,-0.855) B5(49.6,-0.855) B6(50.6,-0.855) B7(51.6,-0.855) B8(52.6,-0.855) B9(53.6,-0.855) B10(54.6,-0.855) B11(55.6,-0.855) B12(58.7,-0.855) B13(59.7,-0.855) B14(60.7,-0.855) B15(61.7,-0.855) B16(62.7,-0.855) B18(64.7,-0.855) B19(65.7,-0.855) B20(66.7,-0.855) B21(67.7,-0.855) B22(68.7,-0.855) B23(69.7,-0.855) B24(70.7,-0.855) B25(71.7,-0.855) B26(72.7,-0.855) B27(73.7,-0.855) B28(74.7,-0.855) B29(75.7,-0.855) B30(76.7,-0.855) B32(78.7,-0.855)
  rect 0.7x3.2 smd: B17(63.7,-0.5) B31(77.7,-0.5)
Top Solder:
  region: 58.097,1.204 58.097,-3.996 58.597,-4.496 78.797,-4.496 79.297,-3.996 79.297,1.204
  region: 45,1.2 45,-4 45.5,-4.5 55.7,-4.5 56.2,-4 56.2,1.2
Bottom Solder:
  region: 58.1,1.2 58.1,-4 58.6,-4.5 78.8,-4.5 79.3,-4 79.3,1.2
  region: 45,1.2 45,-4 45.5,-4.5 55.7,-4.5 56.2,-4 56.2,1.2
Keep-Out Layer:
  board cut-out: 5.91,4.85 5.91,4.693 5.971,4.386 6.091,4.097 6.265,3.836 6.486,3.615 6.747,3.441 7.036,3.321 7.343,3.26 7.5,3.26 7.657,3.26 7.964,3.321 8.253,3.441 8.514,3.615 8.735,3.836 8.909,4.097 9.029,4.386 9.09,4.693 9.09,4.85 9.09,5.007 9.029,5.314 8.909,5.603 8.735,5.864 8.514,6.085 8.253,6.259 7.964,6.379 7.657,6.44 7.5,6.44 7.343,6.44 7.036,6.379 6.747,6.259 6.486,6.085 6.265,5.864 6.091,5.603 5.971,5.314 5.91,5.007
  board cut-out: 7.5,88.66 7.343,88.66 7.036,88.721 6.747,88.841 6.486,89.015 6.265,89.236 6.091,89.497 5.971,89.786 5.91,90.093 5.91,90.25 5.91,90.407 5.971,90.714 6.091,91.003 6.265,91.264 6.486,91.485 6.747,91.659 7.036,91.779 7.343,91.84 7.5,91.84 7.657,91.84 7.964,91.779 8.253,91.659 8.514,91.485 8.735,91.264 8.909,91.003 9.029,90.714 9.09,90.407 9.09,90.25 9.09,90.093 9.029,89.786 8.909,89.497 8.735,89.236 8.514,89.015 8.253,88.841 7.964,88.721 7.657,88.66
  board cut-out: 305.16,12.1 305.16,11.943 305.221,11.636 305.341,11.347 305.515,11.086 305.736,10.865 305.997,10.691 306.286,10.571 306.593,10.51 306.75,10.51 306.907,10.51 307.214,10.571 307.503,10.691 307.764,10.865 307.985,11.086 308.159,11.347 308.279,11.636 308.34,11.943 308.34,12.1 308.34,12.257 308.279,12.564 308.159,12.853 307.985,13.114 307.764,13.335 307.503,13.509 307.214,13.629 306.907,13.69 306.75,13.69 306.593,13.69 306.286,13.629 305.997,13.509 305.736,13.335 305.515,13.114 305.341,12.853 305.221,12.564 305.16,12.257
  board cut-out: 305.16,101.63 305.16,101.473 305.221,101.166 305.341,100.877 305.515,100.616 305.736,100.395 305.997,100.221 306.286,100.101 306.593,100.04 306.75,100.04 306.907,100.04 307.214,100.101 307.503,100.221 307.764,100.395 307.985,100.616 308.159,100.877 308.279,101.166 308.34,101.473 308.34,101.63 308.34,101.787 308.279,102.094 308.159,102.383 307.985,102.644 307.764,102.865 307.503,103.039 307.214,103.159 306.907,103.22 306.75,103.22 306.593,103.22 306.286,103.159 305.997,103.039 305.736,102.865 305.515,102.644 305.341,102.383 305.221,102.094 305.16,101.787
Mechanical 1:
  circle w0.254: c306.75,101.63 r1.59
  circle w0.254: c7.5,90.25 r1.59
  circle w0.254: c306.75,12.1 r1.59
  circle w0.254: c7.5,4.85 r1.59
  lines w0.254: 0,0 0,106.65 312,106.65 312,8.25 80.8,8.25 ccw(c80.8,6.75) 79.3,6.75 79.3,-4 78.8,-4.5 58.6,-4.5 58.1,-4 58.1,2.95 ccw(c57.15,2.95) 56.2,2.95 56.2,-4 55.7,-4.5 45.5,-4.5 45,-4 45,6.425 ccw(c43.175,6.425) 41.35,6.425 41.35,0 33.35,0 33.35,6.75 ccw(c31.85,6.75) 31.85,8.25 15,8.25 15,0 0,0

## PCIE_X4_HALFLENGTH [mm]
pads (64):
  rect 0.7x3.2 smd far side: A1(45.6,-0.5)
  rect 0.7x3.9 smd far side: A2(46.6,-0.855) A3(47.6,-0.855) A4(48.6,-0.855) A5(49.6,-0.855) A6(50.6,-0.855) A7(51.6,-0.855) A8(52.6,-0.855) A9(53.6,-0.855) A10(54.6,-0.855) A11(55.6,-0.855) A12(58.7,-0.855) A13(59.7,-0.855) A14(60.7,-0.855) A15(61.7,-0.855) A16(62.7,-0.855) A17(63.7,-0.855) A18(64.7,-0.855) A19(65.7,-0.855) A20(66.7,-0.855) A21(67.7,-0.855) A22(68.7,-0.855) A23(69.7,-0.855) A24(70.7,-0.855) A25(71.7,-0.855) A26(72.7,-0.855) A27(73.7,-0.855) A28(74.7,-0.855) A29(75.7,-0.855) A30(76.7,-0.855) A31(77.7,-0.855) A32(78.7,-0.855)
  rect 0.7x3.9 smd: B1(45.6,-0.855) B2(46.6,-0.855) B3(47.6,-0.855) B4(48.6,-0.855) B5(49.6,-0.855) B6(50.6,-0.855) B7(51.6,-0.855) B8(52.6,-0.855) B9(53.6,-0.855) B10(54.6,-0.855) B11(55.6,-0.855) B12(58.7,-0.855) B13(59.7,-0.855) B14(60.7,-0.855) B15(61.7,-0.855) B16(62.7,-0.855) B18(64.7,-0.855) B19(65.7,-0.855) B20(66.7,-0.855) B21(67.7,-0.855) B22(68.7,-0.855) B23(69.7,-0.855) B24(70.7,-0.855) B25(71.7,-0.855) B26(72.7,-0.855) B27(73.7,-0.855) B28(74.7,-0.855) B29(75.7,-0.855) B30(76.7,-0.855) B32(78.7,-0.855)
  rect 0.7x3.2 smd: B17(63.7,-0.5) B31(77.7,-0.5)
Top Solder:
  region: 45,1.2 45,-4 45.5,-4.5 55.7,-4.5 56.2,-4 56.2,1.2
  region: 58.097,1.204 58.097,-3.996 58.597,-4.496 78.797,-4.496 79.297,-3.996 79.297,1.204
Bottom Solder:
  region: 45,1.2 45,-4 45.5,-4.5 55.7,-4.5 56.2,-4 56.2,1.2
  region: 58.1,1.2 58.1,-4 58.6,-4.5 78.8,-4.5 79.3,-4 79.3,1.2
Keep-Out Layer:
  board cut-out: 5.91,4.85 5.91,5.007 5.971,5.314 6.091,5.603 6.265,5.864 6.486,6.085 6.747,6.259 7.036,6.379 7.343,6.44 7.5,6.44 7.657,6.44 7.964,6.379 8.253,6.259 8.514,6.085 8.735,5.864 8.909,5.603 9.029,5.314 9.09,5.007 9.09,4.85 9.09,4.693 9.029,4.386 8.909,4.097 8.735,3.836 8.514,3.615 8.253,3.441 7.964,3.321 7.657,3.26 7.5,3.26 7.343,3.26 7.036,3.321 6.747,3.441 6.486,3.615 6.265,3.836 6.091,4.097 5.971,4.386 5.91,4.693
  board cut-out: 5.91,90.25 5.91,90.407 5.971,90.714 6.091,91.003 6.265,91.264 6.486,91.485 6.747,91.659 7.036,91.779 7.343,91.84 7.5,91.84 7.657,91.84 7.964,91.779 8.253,91.659 8.514,91.485 8.735,91.264 8.909,91.003 9.029,90.714 9.09,90.407 9.09,90.25 9.09,90.093 9.029,89.786 8.909,89.497 8.735,89.236 8.514,89.015 8.253,88.841 7.964,88.721 7.657,88.66 7.5,88.66 7.343,88.66 7.036,88.721 6.747,88.841 6.486,89.015 6.265,89.236 6.091,89.497 5.971,89.786 5.91,90.093
Mechanical 1:
  circle w0.254: c7.5,4.85 r1.59
  circle w0.254: c7.5,90.25 r1.59
  lines w0.254: 0,0 15,0 15,8.25 31.85,8.25 cw(c31.85,6.75) 33.35,6.75 33.35,0 41.35,0 41.35,6.425 cw(c43.175,6.425) 45,6.425 45,-4 45.5,-4.5 55.7,-4.5 56.2,-4 56.2,2.95 cw(c57.15,2.95) 58.1,2.95 58.1,-4 58.6,-4.5 78.8,-4.5 79.3,-4 79.3,6.75 cw(c80.8,6.75) 80.8,8.25 167.65,8.25 167.65,106.65 0,106.65 0,0

## PCIE_X4_LOWPROFILE [mm]
pads (64):
  rect 0.7x3.2 smd far side: A1(45.6,-0.5)
  rect 0.7x3.9 smd far side: A2(46.6,-0.855) A3(47.6,-0.855) A4(48.6,-0.855) A5(49.6,-0.855) A6(50.6,-0.855) A7(51.6,-0.855) A8(52.6,-0.855) A9(53.6,-0.855) A10(54.6,-0.855) A11(55.6,-0.855) A12(58.7,-0.855) A13(59.7,-0.855) A14(60.7,-0.855) A15(61.7,-0.855) A16(62.7,-0.855) A17(63.7,-0.855) A18(64.7,-0.855) A19(65.7,-0.855) A20(66.7,-0.855) A21(67.7,-0.855) A22(68.7,-0.855) A23(69.7,-0.855) A24(70.7,-0.855) A25(71.7,-0.855) A26(72.7,-0.855) A27(73.7,-0.855) A28(74.7,-0.855) A29(75.7,-0.855) A30(76.7,-0.855) A31(77.7,-0.855) A32(78.7,-0.855)
  rect 0.7x3.9 smd: B1(45.6,-0.855) B2(46.6,-0.855) B3(47.6,-0.855) B4(48.6,-0.855) B5(49.6,-0.855) B6(50.6,-0.855) B7(51.6,-0.855) B8(52.6,-0.855) B9(53.6,-0.855) B10(54.6,-0.855) B11(55.6,-0.855) B12(58.7,-0.855) B13(59.7,-0.855) B14(60.7,-0.855) B15(61.7,-0.855) B16(62.7,-0.855) B18(64.7,-0.855) B19(65.7,-0.855) B20(66.7,-0.855) B21(67.7,-0.855) B22(68.7,-0.855) B23(69.7,-0.855) B24(70.7,-0.855) B25(71.7,-0.855) B26(72.7,-0.855) B27(73.7,-0.855) B28(74.7,-0.855) B29(75.7,-0.855) B30(76.7,-0.855) B32(78.7,-0.855)
  rect 0.7x3.2 smd: B17(63.7,-0.5) B31(77.7,-0.5)
Top Solder:
  region: 45,1.2 45,-4 45.5,-4.5 55.7,-4.5 56.2,-4 56.2,1.2
  region: 58.097,1.204 58.097,-3.996 58.597,-4.496 78.797,-4.496 79.297,-3.996 79.297,1.204
Bottom Solder:
  region: 45,1.2 45,-4 45.5,-4.5 55.7,-4.5 56.2,-4 56.2,1.2
  region: 58.1,1.2 58.1,-4 58.6,-4.5 78.8,-4.5 79.3,-4 79.3,1.2
Keep-Out Layer:
  board cut-out: 5.91,4.85 5.91,4.693 5.971,4.386 6.091,4.097 6.265,3.836 6.486,3.615 6.747,3.441 7.036,3.321 7.343,3.26 7.5,3.26 7.657,3.26 7.964,3.321 8.253,3.441 8.514,3.615 8.735,3.836 8.909,4.097 9.029,4.386 9.09,4.693 9.09,4.85 9.09,5.007 9.029,5.314 8.909,5.603 8.735,5.864 8.514,6.085 8.253,6.259 7.964,6.379 7.657,6.44 7.5,6.44 7.343,6.44 7.036,6.379 6.747,6.259 6.486,6.085 6.265,5.864 6.091,5.603 5.971,5.314 5.91,5.007
Mechanical 1:
  circle w0.254: c7.5,4.85 r1.59
  lines w0.254: 0,0 0,64.4 167.65,64.4 167.65,8.25 80.8,8.25 ccw(c80.8,6.75) 79.3,6.75 79.3,-4 78.8,-4.5 58.6,-4.5 58.1,-4 58.1,2.95 ccw(c57.15,2.95) 56.2,2.95 56.2,-4 55.7,-4.5 45.5,-4.5 45,-4 45,6.425 ccw(c43.175,6.425) 41.35,6.425 41.35,0 33.35,0 33.35,6.75 ccw(c31.85,6.75) 31.85,8.25 15,8.25 15,0 0,0

## PCIE_X8_FULLLENGTH [mm]
pads (98):
  rect 0.7x3.2 smd far side: A1(45.6,-0.5)
  rect 0.7x3.9 smd far side: A2(46.6,-0.855) A3(47.6,-0.855) A4(48.6,-0.855) A5(49.6,-0.855) A6(50.6,-0.855) A7(51.6,-0.855) A8(52.6,-0.855) A9(53.6,-0.855) A10(54.6,-0.855) A11(55.6,-0.855) A12(58.7,-0.855) A13(59.7,-0.855) A14(60.7,-0.855) A15(61.7,-0.855) A16(62.7,-0.855) A17(63.7,-0.855) A18(64.7,-0.855) A19(65.7,-0.855) A20(66.7,-0.855) A21(67.7,-0.855) A22(68.7,-0.855) A23(69.7,-0.855) A24(70.7,-0.855) A25(71.7,-0.855) A26(72.7,-0.855) A27(73.7,-0.855) A28(74.7,-0.855) A29(75.7,-0.855) A30(76.7,-0.855) A31(77.7,-0.855) A32(78.7,-0.855) A33(79.7,-0.855) A34(80.7,-0.855) A35(81.7,-0.855) A36(82.7,-0.855) A37(83.7,-0.855) A38(84.7,-0.855) A39(85.7,-0.855) A40(86.7,-0.855) A41(87.7,-0.855) A42(88.7,-0.855) A43(89.7,-0.855) A44(90.7,-0.855) A45(91.7,-0.855) A46(92.7,-0.855) A47(93.7,-0.855) A48(94.7,-0.855) A49(95.7,-0.855)
  rect 0.7x3.9 smd: B1(45.6,-0.855) B2(46.6,-0.855) B3(47.6,-0.855) B4(48.6,-0.855) B5(49.6,-0.855) B6(50.6,-0.855) B7(51.6,-0.855) B8(52.6,-0.855) B9(53.6,-0.855) B10(54.6,-0.855) B11(55.6,-0.855) B12(58.7,-0.855) B13(59.7,-0.855) B14(60.7,-0.855) B15(61.7,-0.855) B16(62.7,-0.855) B18(64.7,-0.855) B19(65.7,-0.855) B20(66.7,-0.855) B21(67.7,-0.855) B22(68.7,-0.855) B23(69.7,-0.855) B24(70.7,-0.855) B25(71.7,-0.855) B26(72.7,-0.855) B27(73.7,-0.855) B28(74.7,-0.855) B29(75.7,-0.855) B30(76.7,-0.855) B32(78.7,-0.855) B33(79.7,-0.855) B34(80.7,-0.855) B35(81.7,-0.855) B36(82.7,-0.855) B37(83.7,-0.855) B38(84.7,-0.855) B39(85.7,-0.855) B40(86.7,-0.855) B41(87.7,-0.855) B42(88.7,-0.855) B43(89.7,-0.855) B44(90.7,-0.855) B45(91.7,-0.855) B46(92.7,-0.855) B47(93.7,-0.855) B49(95.7,-0.855)
  rect 0.7x3.2 smd: B17(63.7,-0.5) B31(77.7,-0.5) B48(94.7,-0.5)
Top Solder:
  region: 45,1.2 45,-4 45.5,-4.5 55.7,-4.5 56.2,-4 56.2,1.2
  region: 58.1,1.2 58.1,-4 58.6,-4.5 95.8,-4.5 96.3,-4 96.3,1.2
Bottom Solder:
  region: 45,1.2 45,-4 45.5,-4.5 55.7,-4.5 56.2,-4 56.2,1.2
  region: 58.1,1.2 58.1,-4 58.6,-4.5 95.8,-4.5 96.3,-4 96.3,1.2
Keep-Out Layer:
  board cut-out: 305.16,101.63 305.16,101.473 305.221,101.166 305.341,100.877 305.515,100.616 305.736,100.395 305.997,100.221 306.286,100.101 306.593,100.04 306.75,100.04 306.907,100.04 307.214,100.101 307.503,100.221 307.764,100.395 307.985,100.616 308.159,100.877 308.279,101.166 308.34,101.473 308.34,101.63 308.34,101.787 308.279,102.094 308.159,102.383 307.985,102.644 307.764,102.865 307.503,103.039 307.214,103.159 306.907,103.22 306.75,103.22 306.593,103.22 306.286,103.159 305.997,103.039 305.736,102.865 305.515,102.644 305.341,102.383 305.221,102.094 305.16,101.787
  board cut-out: 305.16,12.1 305.16,11.943 305.221,11.636 305.341,11.347 305.515,11.086 305.736,10.865 305.997,10.691 306.286,10.571 306.593,10.51 306.75,10.51 306.907,10.51 307.214,10.571 307.503,10.691 307.764,10.865 307.985,11.086 308.159,11.347 308.279,11.636 308.34,11.943 308.34,12.1 308.34,12.257 308.279,12.564 308.159,12.853 307.985,13.114 307.764,13.335 307.503,13.509 307.214,13.629 306.907,13.69 306.75,13.69 306.593,13.69 306.286,13.629 305.997,13.509 305.736,13.335 305.515,13.114 305.341,12.853 305.221,12.564 305.16,12.257
  board cut-out: 7.5,88.66 7.343,88.66 7.036,88.721 6.747,88.841 6.486,89.015 6.265,89.236 6.091,89.497 5.971,89.786 5.91,90.093 5.91,90.25 5.91,90.407 5.971,90.714 6.091,91.003 6.265,91.264 6.486,91.485 6.747,91.659 7.036,91.779 7.343,91.84 7.5,91.84 7.657,91.84 7.964,91.779 8.253,91.659 8.514,91.485 8.735,91.264 8.909,91.003 9.029,90.714 9.09,90.407 9.09,90.25 9.09,90.093 9.029,89.786 8.909,89.497 8.735,89.236 8.514,89.015 8.253,88.841 7.964,88.721 7.657,88.66
  board cut-out: 5.91,4.85 5.91,4.693 5.971,4.386 6.091,4.097 6.265,3.836 6.486,3.615 6.747,3.441 7.036,3.321 7.343,3.26 7.5,3.26 7.657,3.26 7.964,3.321 8.253,3.441 8.514,3.615 8.735,3.836 8.909,4.097 9.029,4.386 9.09,4.693 9.09,4.85 9.09,5.007 9.029,5.314 8.909,5.603 8.735,5.864 8.514,6.085 8.253,6.259 7.964,6.379 7.657,6.44 7.5,6.44 7.343,6.44 7.036,6.379 6.747,6.259 6.486,6.085 6.265,5.864 6.091,5.603 5.971,5.314 5.91,5.007
Mechanical 1:
  circle w0.254: c306.75,101.63 r1.59
  circle w0.254: c7.5,90.25 r1.59
  circle w0.254: c306.75,12.1 r1.59
  circle w0.254: c7.5,4.85 r1.59
  lines w0.254: 0,0 0,106.65 312,106.65 312,8.25 97.8,8.25 ccw(c97.8,6.75) 96.3,6.75 96.3,-4 95.8,-4.5 58.6,-4.5 58.1,-4 58.1,2.95 ccw(c57.15,2.95) 56.2,2.95 56.2,-4 55.7,-4.5 45.5,-4.5 45,-4 45,6.425 ccw(c43.175,6.425) 41.35,6.425 41.35,0 33.35,0 33.35,6.75 ccw(c31.85,6.75) 31.85,8.25 15,8.25 15,0 0,0

## PCIE_X8_HALFLENGTH [mm]
pads (98):
  rect 0.7x3.2 smd far side: A1(45.6,-0.5)
  rect 0.7x3.9 smd far side: A2(46.6,-0.855) A3(47.6,-0.855) A4(48.6,-0.855) A5(49.6,-0.855) A6(50.6,-0.855) A7(51.6,-0.855) A8(52.6,-0.855) A9(53.6,-0.855) A10(54.6,-0.855) A11(55.6,-0.855) A12(58.7,-0.855) A13(59.7,-0.855) A14(60.7,-0.855) A15(61.7,-0.855) A16(62.7,-0.855) A17(63.7,-0.855) A18(64.7,-0.855) A19(65.7,-0.855) A20(66.7,-0.855) A21(67.7,-0.855) A22(68.7,-0.855) A23(69.7,-0.855) A24(70.7,-0.855) A25(71.7,-0.855) A26(72.7,-0.855) A27(73.7,-0.855) A28(74.7,-0.855) A29(75.7,-0.855) A30(76.7,-0.855) A31(77.7,-0.855) A32(78.7,-0.855) A33(79.7,-0.855) A34(80.7,-0.855) A35(81.7,-0.855) A36(82.7,-0.855) A37(83.7,-0.855) A38(84.7,-0.855) A39(85.7,-0.855) A40(86.7,-0.855) A41(87.7,-0.855) A42(88.7,-0.855) A43(89.7,-0.855) A44(90.7,-0.855) A45(91.7,-0.855) A46(92.7,-0.855) A47(93.7,-0.855) A48(94.7,-0.855) A49(95.7,-0.855)
  rect 0.7x3.9 smd: B1(45.6,-0.855) B2(46.6,-0.855) B3(47.6,-0.855) B4(48.6,-0.855) B5(49.6,-0.855) B6(50.6,-0.855) B7(51.6,-0.855) B8(52.6,-0.855) B9(53.6,-0.855) B10(54.6,-0.855) B11(55.6,-0.855) B12(58.7,-0.855) B13(59.7,-0.855) B14(60.7,-0.855) B15(61.7,-0.855) B16(62.7,-0.855) B18(64.7,-0.855) B19(65.7,-0.855) B20(66.7,-0.855) B21(67.7,-0.855) B22(68.7,-0.855) B23(69.7,-0.855) B24(70.7,-0.855) B25(71.7,-0.855) B26(72.7,-0.855) B27(73.7,-0.855) B28(74.7,-0.855) B29(75.7,-0.855) B30(76.7,-0.855) B32(78.7,-0.855) B33(79.7,-0.855) B34(80.7,-0.855) B35(81.7,-0.855) B36(82.7,-0.855) B37(83.7,-0.855) B38(84.7,-0.855) B39(85.7,-0.855) B40(86.7,-0.855) B41(87.7,-0.855) B42(88.7,-0.855) B43(89.7,-0.855) B44(90.7,-0.855) B45(91.7,-0.855) B46(92.7,-0.855) B47(93.7,-0.855) B49(95.7,-0.855)
  rect 0.7x3.2 smd: B17(63.7,-0.5) B31(77.7,-0.5) B48(94.7,-0.5)
Top Solder:
  region: 45,1.2 45,-4 45.5,-4.5 55.7,-4.5 56.2,-4 56.2,1.2
  region: 58.1,1.2 58.1,-4 58.6,-4.5 95.8,-4.5 96.3,-4 96.3,1.2
Bottom Solder:
  region: 45,1.2 45,-4 45.5,-4.5 55.7,-4.5 56.2,-4 56.2,1.2
  region: 58.1,1.2 58.1,-4 58.6,-4.5 95.8,-4.5 96.3,-4 96.3,1.2
Keep-Out Layer:
  board cut-out: 5.91,90.25 5.91,90.407 5.971,90.714 6.091,91.003 6.265,91.264 6.486,91.485 6.747,91.659 7.036,91.779 7.343,91.84 7.5,91.84 7.657,91.84 7.964,91.779 8.253,91.659 8.514,91.485 8.735,91.264 8.909,91.003 9.029,90.714 9.09,90.407 9.09,90.25 9.09,90.093 9.029,89.786 8.909,89.497 8.735,89.236 8.514,89.015 8.253,88.841 7.964,88.721 7.657,88.66 7.5,88.66 7.343,88.66 7.036,88.721 6.747,88.841 6.486,89.015 6.265,89.236 6.091,89.497 5.971,89.786 5.91,90.093
  board cut-out: 5.91,4.85 5.91,5.007 5.971,5.314 6.091,5.603 6.265,5.864 6.486,6.085 6.747,6.259 7.036,6.379 7.343,6.44 7.5,6.44 7.657,6.44 7.964,6.379 8.253,6.259 8.514,6.085 8.735,5.864 8.909,5.603 9.029,5.314 9.09,5.007 9.09,4.85 9.09,4.693 9.029,4.386 8.909,4.097 8.735,3.836 8.514,3.615 8.253,3.441 7.964,3.321 7.657,3.26 7.5,3.26 7.343,3.26 7.036,3.321 6.747,3.441 6.486,3.615 6.265,3.836 6.091,4.097 5.971,4.386 5.91,4.693
Mechanical 1:
  circle w0.254: c7.5,4.85 r1.59
  circle w0.254: c7.5,90.25 r1.59
  lines w0.254: 0,0 15,0 15,8.25 31.85,8.25 cw(c31.85,6.75) 33.35,6.75 33.35,0 41.35,0 41.35,6.425 cw(c43.175,6.425) 45,6.425 45,-4 45.5,-4.5 55.7,-4.5 56.2,-4 56.2,2.95 cw(c57.15,2.95) 58.1,2.95 58.1,-4 58.6,-4.5 95.8,-4.5 96.3,-4 96.3,6.75 cw(c97.8,6.75) 97.8,8.25 167.65,8.25 167.65,106.65 0,106.65 0,0

## PCIE_X8_LOWPROFILE [mm]
pads (98):
  rect 0.7x3.2 smd far side: A1(45.6,-0.5)
  rect 0.7x3.9 smd far side: A2(46.6,-0.855) A3(47.6,-0.855) A4(48.6,-0.855) A5(49.6,-0.855) A6(50.6,-0.855) A7(51.6,-0.855) A8(52.6,-0.855) A9(53.6,-0.855) A10(54.6,-0.855) A11(55.6,-0.855) A12(58.7,-0.855) A13(59.7,-0.855) A14(60.7,-0.855) A15(61.7,-0.855) A16(62.7,-0.855) A17(63.7,-0.855) A18(64.7,-0.855) A19(65.7,-0.855) A20(66.7,-0.855) A21(67.7,-0.855) A22(68.7,-0.855) A23(69.7,-0.855) A24(70.7,-0.855) A25(71.7,-0.855) A26(72.7,-0.855) A27(73.7,-0.855) A28(74.7,-0.855) A29(75.7,-0.855) A30(76.7,-0.855) A31(77.7,-0.855) A32(78.7,-0.855) A33(79.7,-0.855) A34(80.7,-0.855) A35(81.7,-0.855) A36(82.7,-0.855) A37(83.7,-0.855) A38(84.7,-0.855) A39(85.7,-0.855) A40(86.7,-0.855) A41(87.7,-0.855) A42(88.7,-0.855) A43(89.7,-0.855) A44(90.7,-0.855) A45(91.7,-0.855) A46(92.7,-0.855) A47(93.7,-0.855) A48(94.7,-0.855) A49(95.7,-0.855)
  rect 0.7x3.9 smd: B1(45.6,-0.855) B2(46.6,-0.855) B3(47.6,-0.855) B4(48.6,-0.855) B5(49.6,-0.855) B6(50.6,-0.855) B7(51.6,-0.855) B8(52.6,-0.855) B9(53.6,-0.855) B10(54.6,-0.855) B11(55.6,-0.855) B12(58.7,-0.855) B13(59.7,-0.855) B14(60.7,-0.855) B15(61.7,-0.855) B16(62.7,-0.855) B18(64.7,-0.855) B19(65.7,-0.855) B20(66.7,-0.855) B21(67.7,-0.855) B22(68.7,-0.855) B23(69.7,-0.855) B24(70.7,-0.855) B25(71.7,-0.855) B26(72.7,-0.855) B27(73.7,-0.855) B28(74.7,-0.855) B29(75.7,-0.855) B30(76.7,-0.855) B32(78.7,-0.855) B33(79.7,-0.855) B34(80.7,-0.855) B35(81.7,-0.855) B36(82.7,-0.855) B37(83.7,-0.855) B38(84.7,-0.855) B39(85.7,-0.855) B40(86.7,-0.855) B41(87.7,-0.855) B42(88.7,-0.855) B43(89.7,-0.855) B44(90.7,-0.855) B45(91.7,-0.855) B46(92.7,-0.855) B47(93.7,-0.855) B49(95.7,-0.855)
  rect 0.7x3.2 smd: B17(63.7,-0.5) B31(77.7,-0.5) B48(94.7,-0.5)
Top Solder:
  region: 58.1,1.2 58.1,-4 58.6,-4.5 95.8,-4.5 96.3,-4 96.3,1.2
  region: 45,1.2 45,-4 45.5,-4.5 55.7,-4.5 56.2,-4 56.2,1.2
Bottom Solder:
  region: 58.1,1.2 58.1,-4 58.6,-4.5 95.8,-4.5 96.3,-4 96.3,1.2
  region: 45,1.2 45,-4 45.5,-4.5 55.7,-4.5 56.2,-4 56.2,1.2
Keep-Out Layer:
  board cut-out: 5.91,4.85 5.91,4.693 5.971,4.386 6.091,4.097 6.265,3.836 6.486,3.615 6.747,3.441 7.036,3.321 7.343,3.26 7.5,3.26 7.657,3.26 7.964,3.321 8.253,3.441 8.514,3.615 8.735,3.836 8.909,4.097 9.029,4.386 9.09,4.693 9.09,4.85 9.09,5.007 9.029,5.314 8.909,5.603 8.735,5.864 8.514,6.085 8.253,6.259 7.964,6.379 7.657,6.44 7.5,6.44 7.343,6.44 7.036,6.379 6.747,6.259 6.486,6.085 6.265,5.864 6.091,5.603 5.971,5.314 5.91,5.007
Mechanical 1:
  circle w0.254: c7.5,4.85 r1.59
  lines w0.254: 0,0 0,64.4 167.65,64.4 167.65,8.25 97.8,8.25 ccw(c97.8,6.75) 96.3,6.75 96.3,-4 95.8,-4.5 58.6,-4.5 58.1,-4 58.1,2.95 ccw(c57.15,2.95) 56.2,2.95 56.2,-4 55.7,-4.5 45.5,-4.5 45,-4 45,6.425 ccw(c43.175,6.425) 41.35,6.425 41.35,0 33.35,0 33.35,6.75 ccw(c31.85,6.75) 31.85,8.25 15,8.25 15,0 0,0